# Altium footprint library SKY13370-374LF.PcbLib: 3 footprints
Each footprint in its own frame and in the unit in brackets; x right, y up, seen from the top. Pads: shape width x height; smd on the part's side, far side on the other; paste and mask are expansions set on the pad; w line width, h text height; cw(c..) or ccw(c..) is an arc to the next point about the centre after c.
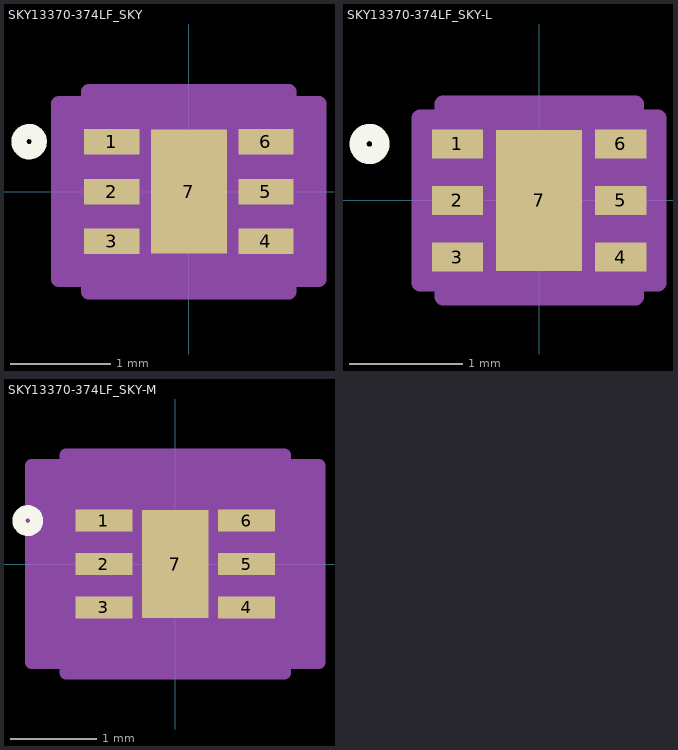
[diagram p0: the footprints below, top view; thin cyan lines are the x and y axes]

## SKY13370-374LF_SKY [mil]
pads (7):
  rect 21.81x10.03 smd paste+0 mask+0: 1(-30.41,19.69) 2(-30.41,0) 3(-30.41,-19.69) 4(30.41,-19.69) 5(30.41,0) 6(30.41,19.69)
  rect 30x49 smd paste+0 mask+0: 7(0,0)
Top Overlay:
  circle w6: c-63,19.69 r4
  text ".Designator" at -137.5,-25 h50
Mechanical 13:
  circle w1: c-19.5,19.69 r3
  lines w1: -12,29.5 ccw(c0,29.5) 12,29.5 ; -29.5,-29.5 29.5,-29.5 29.5,29.5 -29.5,29.5 -29.5,-29.5
  text ".Designator" at -137.5,-25 h50
Mechanical 15:
  region: -39.5,-34.71 -51.31,-34.71 -51.31,34.71 -39.5,34.71 -39.5,39.5 39.5,39.5 39.5,34.71 51.31,34.71 51.31,-34.71 39.5,-34.71 39.5,-39.5 -39.5,-39.5
  lines w6: -51.31,-34.71 -51.31,34.71 -39.5,34.71 -39.5,39.5 39.5,39.5 39.5,34.71 51.31,34.71 51.31,-34.71 39.5,-34.71 39.5,-39.5 -39.5,-39.5 -39.5,-34.71 -51.31,-34.71
3D body "SKY13370-374LF_SKY.step": height 20.12, standoff 0, extent -29.49,-29.49 29.49,29.49

## SKY13370-374LF_SKY-L [mil]
pads (7):
  rect 17.87x10.03 smd paste+0 mask+0: 1(-28.44,19.69) 2(-28.44,0) 3(-28.44,-19.69) 4(28.44,-19.69) 5(28.44,0) 6(28.44,19.69)
  rect 30x49 smd paste+0 mask+0: 7(0,0)
Top Overlay:
  circle w6: c-59.06,19.69 r4
  text ".Designator" at -137.5,-25 h50
Mechanical 13:
  circle w1: c-19.5,19.69 r3
  lines w1: -12,29.5 ccw(c0,29.5) 12,29.5 ; -29.5,-29.5 29.5,-29.5 29.5,29.5 -29.5,29.5 -29.5,-29.5
  text ".Designator" at -137.5,-25 h50
Mechanical 15:
  region: -33.5,-28.71 -41.37,-28.71 -41.37,28.71 -33.5,28.71 -33.5,33.5 33.5,33.5 33.5,28.71 41.37,28.71 41.37,-28.71 33.5,-28.71 33.5,-33.5 -33.5,-33.5
  lines w6: -41.37,-28.71 -41.37,28.71 -33.5,28.71 -33.5,33.5 33.5,33.5 33.5,28.71 41.37,28.71 41.37,-28.71 33.5,-28.71 33.5,-33.5 -33.5,-33.5 -33.5,-28.71 -41.37,-28.71
3D body "SKY13370-374LF_SKY.step": height 20.12, standoff 0, extent -29.49,-29.49 29.49,29.49

## SKY13370-374LF_SKY-M [mil]
pads (7):
  rect 25.75x10.03 smd paste+0 mask+0: 1(-32.37,19.69) 2(-32.37,0) 3(-32.37,-19.69) 4(32.37,-19.69) 5(32.37,0) 6(32.37,19.69)
  rect 30x49 smd paste+0 mask+0: 7(0,0)
Top Overlay:
  circle w6: c-66.94,19.69 r4
  text ".Designator" at -137.5,-25 h50
Mechanical 13:
  circle w1: c-19.5,19.69 r3
  lines w1: -12,29.5 ccw(c0,29.5) 12,29.5 ; -29.5,-29.5 29.5,-29.5 29.5,29.5 -29.5,29.5 -29.5,-29.5
  text ".Designator" at -137.5,-25 h50
Mechanical 15:
  region: -49.5,-44.71 -65.25,-44.71 -65.25,44.71 -49.5,44.71 -49.5,49.5 49.5,49.5 49.5,44.71 65.25,44.71 65.25,-44.71 49.5,-44.71 49.5,-49.5 -49.5,-49.5
  lines w6: -65.25,-44.71 -65.25,44.71 -49.5,44.71 -49.5,49.5 49.5,49.5 49.5,44.71 65.25,44.71 65.25,-44.71 49.5,-44.71 49.5,-49.5 -49.5,-49.5 -49.5,-44.71 -65.25,-44.71
3D body "SKY13370-374LF_SKY.step": height 20.12, standoff 0, extent -29.49,-29.49 29.49,29.49